# Altium schematic symbol library Rising Clamp System WR-TBL_5.08 mm.SchLib: 81 symbols
Pins are listed as number, name and electrical type; pins without a type are passive.

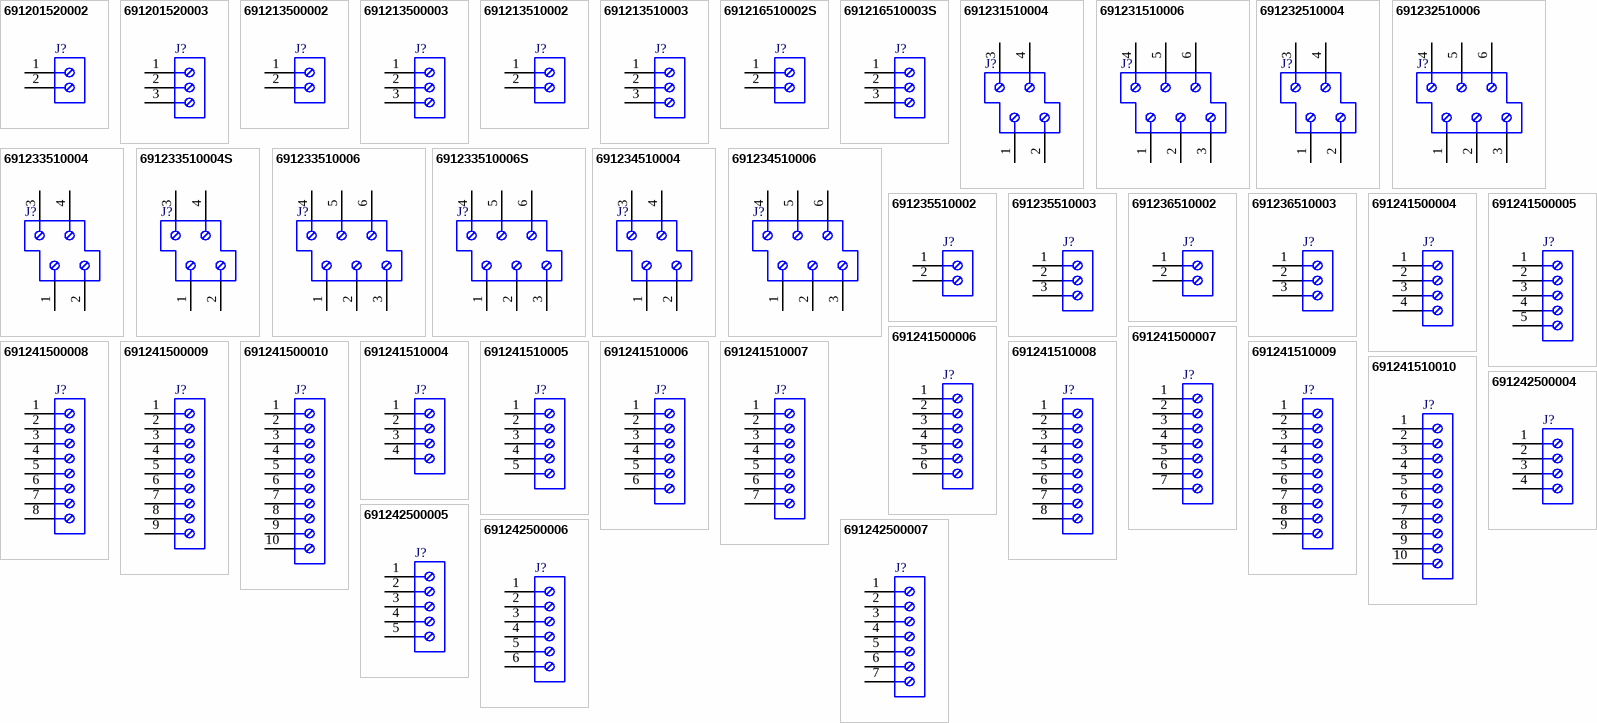
[diagram p0: symbols 691201520002 to 691242500007]

## 691201520002
designator J?
Serie 2015 - 5.08 mm 45deg Entry Modular with Rising Cage Clamp WR-TBL, 2 pin; Part Number: 691201520002; Pin Number: 2; Pitch: 5.08 mm; ComponentLink1Description: Manufacturer; ComponentLink1URL: http://www.we-online.de; ComponentLink2Description: Datasheet; ComponentLink2URL: http://katalog.we-online.de/em/datasheet/6912015200xx.pdf; Published Date: June 2018; Publisher: Wurth Elektronik; Operating Temperature: -30 to 120 degC; Mounting Technology: THT; Packaging: Box
footprint 691201520002
pins: 1, 2

## 691201520003
designator J?
Serie 2015 - 5.08 mm 45deg Entry Modular with Rising Cage Clamp WR-TBL, 3 pin; Part Number: 691201520003; Pin Number: 3; Pitch: 5.08 mm; ComponentLink1Description: Manufacturer; ComponentLink1URL: http://www.we-online.de; ComponentLink2Description: Datasheet; ComponentLink2URL: http://katalog.we-online.de/em/datasheet/6912015200xx.pdf; Published Date: June 2018; Publisher: Wurth Elektronik; Operating Temperature: -30 to 120 degC; Mounting Technology: THT; Packaging: Box
footprint 691201520003
pins: 1, 2, 3

## 691213500002
designator J?
Serie 2135 - 5.08 mm Vertical Entry Modular with Rising Cage Clamp WR-TBL, 2 pin; Part Number: 691213500002; Pin Number: 2; Pitch: 5.08 mm; ComponentLink1Description: Manufacturer; ComponentLink1URL: http://www.we-online.de; ComponentLink2Description: Datasheet; ComponentLink2URL: http://katalog.we-online.de/em/datasheet/6912135000xx.pdf; Published Date: June 2018; Publisher: Wurth Elektronik; Operating Temperature: -30 to 120 degC; Mounting Technology: THT; Packaging: Box
footprint 691213500002
pins: 1, 2

## 691213500003
designator J?
Serie 2135 - 5.08 mm Vertical Entry Modular with Rising Cage Clamp WR-TBL, 3 pin; Part Number: 691213500003; Pin Number: 3; Pitch: 5.08 mm; ComponentLink1Description: Manufacturer; ComponentLink1URL: http://www.we-online.de; ComponentLink2Description: Datasheet; ComponentLink2URL: http://katalog.we-online.de/em/datasheet/6912135000xx.pdf; Published Date: June 2018; Publisher: Wurth Elektronik; Operating Temperature: -30 to 120 degC; Mounting Technology: THT; Packaging: Box
footprint 691213500003
pins: 1, 2, 3

## 691213510002
designator J?
Serie 2135 - 5.08 mm Horizontal Entry Modular with Rising Cage Clamp WR-TBL, 2 pin; Part Number: 691213510002; Pin Number: 2; Pitch: 5.08 mm; ComponentLink1Description: Manufacturer; ComponentLink1URL: http://www.we-online.de; ComponentLink2Description: Datasheet; ComponentLink2URL: http://katalog.we-online.de/em/datasheet/6912135100xx.pdf; Published Date: June 2018; Publisher: Wurth Elektronik; Operating Temperature: -30 to 120 degC; Mounting Technology: THT; Packaging: Box
footprint 691213510002
pins: 1, 2

## 691213510003
designator J?
Serie 2135 - 5.08 mm Horizontal Entry Modular with Rising Cage Clamp WR-TBL, 3 pin; Part Number: 691213510003; Pin Number: 3; Pitch: 5.08 mm; ComponentLink1Description: Manufacturer; ComponentLink1URL: http://www.we-online.de; ComponentLink2Description: Datasheet; ComponentLink2URL: http://katalog.we-online.de/em/datasheet/6912135100xx.pdf; Published Date: June 2018; Publisher: Wurth Elektronik; Operating Temperature: -30 to 120 degC; Mounting Technology: THT; Packaging: Box
footprint 691213510003
pins: 1, 2, 3

## 691216510002S
designator J?
Serie 2165 S - 5.08 mm Horizontal Entry Modular with Rising Cage Clamp WR-TBL, 2 pin; Part Number: 691216510002S; Pin Number: 2; Pitch: 5.08 mm; ComponentLink1Description: Manufacturer; ComponentLink1URL: http://www.we-online.de; ComponentLink2Description: Datasheet; ComponentLink2URL: http://katalog.we-online.de/em/datasheet/6912165100XXS.pdf; Published Date: June 2018; Publisher: Wurth Elektronik; Operating Temperature: -30 to 120 degC; Mounting Technology: THT; Packaging: Box
footprint 691216510002S
pins: 1, 2

## 691216510003S
designator J?
Serie 2165 S - 5.08 mm Horizontal Entry Modular with Rising Cage Clamp WR-TBL, 3 pin; Part Number: 691216510003S; Pin Number: 3; Pitch: 5.08 mm; ComponentLink1Description: Manufacturer; ComponentLink1URL: http://www.we-online.de; ComponentLink2Description: Datasheet; ComponentLink2URL: http://katalog.we-online.de/em/datasheet/6912165100XXS.pdf; Published Date: June 2018; Publisher: Wurth Elektronik; Operating Temperature: -30 to 120 degC; Mounting Technology: THT; Packaging: Box
footprint 691216510003S
pins: 1, 2, 3

## 691231510004
designator J?
Serie 2315 - 5.08 mm Double Level, H=19.01mm, Horizontal Entry Modular with Rising Cage WR-TBL, 4 pin; Part Number: 691231510004; Pin Number: 4; Pitch: 5.08 mm; ComponentLink1Description: Manufacturer; ComponentLink1URL: http://www.we-online.de; ComponentLink2Description: Datasheet; ComponentLink2URL: http://katalog.we-online.de/em/datasheet/6912315100xx.pdf; Published Date: June 2018; Publisher: Wurth Elektronik; Operating Temperature: -40 to 105 degC; Mounting Technology: THT; Packaging: Box
footprint 691231510004
pins: 1, 2, 3, 4

## 691231510006
designator J?
Serie 2315 - 5.08 mm Double Level, H=19.01mm, Horizontal Entry Modular with Rising Cage WR-TBL, 6 pin; Part Number: 691231510006; Pin Number: 6; Pitch: 5.08 mm; ComponentLink1Description: Manufacturer; ComponentLink1URL: http://www.we-online.de; ComponentLink2Description: Datasheet; ComponentLink2URL: http://katalog.we-online.de/em/datasheet/6912315100xx.pdf; Published Date: June 2018; Publisher: Wurth Elektronik; Operating Temperature: -40 to 105 degC; Mounting Technology: THT; Packaging: Box
footprint 691231510006
pins: 1, 2, 3, 4, 5, 6

## 691232510004
designator J?
Serie 2325 - 5.08 mm Double Level, H=25.03mm Horizontal Entry Modular with Rising Cage WR-TBL, 4 pin; Part Number: 691232510004; Pin Number: 4; Pitch: 5.08 mm; ComponentLink1Description: Manufacturer; ComponentLink1URL: http://www.we-online.de; ComponentLink2Description: Datasheet; ComponentLink2URL: http://katalog.we-online.de/em/datasheet/6912325100xx.pdf; Published Date: June 2018; Publisher: Wurth Elektronik; Operating Temperature: -40 to 105 degC; Mounting Technology: THT; Packaging: Box
footprint 691232510004
pins: 1, 2, 3, 4

## 691232510006
designator J?
Serie 2325 - 5.08 mm Double Level, H=25.03mm Horizontal Entry Modular with Rising Cage WR-TBL, 6 pin; Part Number: 691232510006; Pin Number: 6; Pitch: 5.08 mm; ComponentLink1Description: Manufacturer; ComponentLink1URL: http://www.we-online.de; ComponentLink2Description: Datasheet; ComponentLink2URL: http://katalog.we-online.de/em/datasheet/6912325100xx.pdf; Published Date: June 2018; Publisher: Wurth Elektronik; Operating Temperature: -40 to 105 degC; Mounting Technology: THT; Packaging: Box
footprint 691232510006
pins: 1, 2, 3, 4, 5, 6

## 691233510004
designator J?
Serie 2335 - 5.08 mm Double Level, H=31.05mm Horizontal Entry Modular with Rising Cage WR-TBL, 4 pin; Part Number: 691233510004; Pin Number: 4; Pitch: 5.08 mm; ComponentLink1Description: Manufacturer; ComponentLink1URL: http://www.we-online.de; ComponentLink2Description: Datasheet; ComponentLink2URL: http://katalog.we-online.de/em/datasheet/6912335100xx.pdf; Published Date: June 2018; Publisher: Wurth Elektronik; Operating Temperature: -40 to 105 degC; Mounting Technology: THT; Packaging: Box
footprint 691233510004
pins: 1, 2, 3, 4

## 691233510004S
designator J?
Serie 2335 S - 5.08 mm Horizontal Entry with Rising Cage Clamp WR-TBL, 4 pin; Part Number: 691233510004S; Pin Number: 4; Pitch: 5.08 mm; ComponentLink1Description: Manufacturer; ComponentLink1URL: http://www.we-online.de; ComponentLink2Description: Datasheet; ComponentLink2URL: http://katalog.we-online.de/em/datasheet/691233510004S.pdf; Published Date: June 2018; Publisher: Wurth Elektronik; Operating Temperature: -30 to 120 degC; Mounting Technology: THT; Packaging: Box
footprint 691233510004S
pins: 1, 2, 3, 4

## 691233510006
designator J?
Serie 2335 - 5.08 mm Double Level, H=31.05mm Horizontal Entry Modular with Rising Cage WR-TBL, 6 pin; Part Number: 691233510006; Pin Number: 6; Pitch: 5.08 mm; ComponentLink1Description: Manufacturer; ComponentLink1URL: http://www.we-online.de; ComponentLink2Description: Datasheet; ComponentLink2URL: http://katalog.we-online.de/em/datasheet/6912335100xx.pdf; Published Date: June 2018; Publisher: Wurth Elektronik; Operating Temperature: -40 to 105 degC; Mounting Technology: THT; Packaging: Box
footprint 691233510006
pins: 1, 2, 3, 4, 5, 6

## 691233510006S
designator J?
Serie 2335 S - 5.08 mm Horizontal Entry with Rising Cage Clamp WR-TBL, 6 pin; Part Number: 691233510006S; Pin Number: 6; Pitch: 5.08 mm; ComponentLink1Description: Manufacturer; ComponentLink1URL: http://www.we-online.de; ComponentLink2Description: Datasheet; ComponentLink2URL: http://katalog.we-online.de/em/datasheet/691233510006S.pdf; Published Date: June 2018; Publisher: Wurth Elektronik; Operating Temperature: -30 to 120 degC; Mounting Technology: THT; Packaging: Box
footprint 691233510006S
pins: 1, 2, 3, 4, 5, 6

## 691234510004
designator J?
Serie 2345 - 5.08 mm Horizontal Entry with Rising Cage Clamp WR-TBL, 4 pin; Part Number: 691234510004; Pin Number: 4; Pitch: 5.08 mm; ComponentLink1Description: Manufacturer; ComponentLink1URL: http://www.we-online.de; ComponentLink2Description: Datasheet; ComponentLink2URL: http://katalog.we-online.de/em/datasheet/691234510004.pdf; Published Date: June 2018; Publisher: Wurth Elektronik; Operating Temperature: -30 to 120 degC; Mounting Technology: THT; Packaging: Box
footprint 691234510004
pins: 1, 2, 3, 4

## 691234510006
designator J?
Serie 2345 - 5.08 mm Horizontal Entry with Rising Cage Clamp WR-TBL, 6 pin; Part Number: 691234510006; Pin Number: 6; Pitch: 5.08 mm; ComponentLink1Description: Manufacturer; ComponentLink1URL: http://www.we-online.de; ComponentLink2Description: Datasheet; ComponentLink2URL: http://katalog.we-online.de/em/datasheet/691234510006.pdf; Published Date: June 2018; Publisher: Wurth Elektronik; Operating Temperature: -30 to 120 degC; Mounting Technology: THT; Packaging: Box
footprint 691234510006
pins: 1, 2, 3, 4, 5, 6

## 691235510002
designator J?
Serie 2355 - 5.08 mm Horizontal Entry with Rising Cage Clamp WR-TBL, 2 pin; Part Number: 691235510002; Pin Number: 2; Pitch: 5.08 mm; ComponentLink1Description: Manufacturer; ComponentLink1URL: http://www.we-online.de; ComponentLink2Description: Datasheet; ComponentLink2URL: http://katalog.we-online.de/em/datasheet/691235510002.pdf; Published Date: June 2018; Publisher: Wurth Elektronik; Operating Temperature: -30 to 120 degC; Mounting Technology: THT; Packaging: Box
footprint 691235510002
pins: 1, 2

## 691235510003
designator J?
Serie 2355 - 5.08 mm Horizontal Entry with Rising Cage Clamp WR-TBL, 3 pin; Part Number: 691235510003; Pin Number: 3; Pitch: 5.08 mm; ComponentLink1Description: Manufacturer; ComponentLink1URL: http://www.we-online.de; ComponentLink2Description: Datasheet; ComponentLink2URL: http://katalog.we-online.de/em/datasheet/691235510003.pdf; Published Date: June 2018; Publisher: Wurth Elektronik; Operating Temperature: -30 to 120 degC; Mounting Technology: THT; Packaging: Box
footprint 691235510003
pins: 1, 2, 3

## 691236510002
designator J?
Serie 2365 - 5.08 mm Horizontal Cable Entry Modular with Rising Cage Clamp WR-TBL, 2 pin; Part Number: 691236510002; Pin Number: 2; Pitch: 5.08 mm; ComponentLink1Description: Manufacturer; ComponentLink1URL: http://www.we-online.de; ComponentLink2Description: Datasheet; ComponentLink2URL: http://katalog.we-online.de/em/datasheet/691236510002.pdf; Published Date: June 2018; Publisher: Wurth Elektronik; Operating Temperature: -30 to 120 degC; Mounting Technology: THT; Packaging: Box
footprint 691236510002
pins: 1, 2

## 691236510003
designator J?
Serie 2365 - 5.08 mm Horizontal Cable Entry Modular with Rising Cage Clamp WR-TBL, 3 pin; Part Number: 691236510003; Pin Number: 3; Pitch: 5.08 mm; ComponentLink1Description: Manufacturer; ComponentLink1URL: http://www.we-online.de; ComponentLink2Description: Datasheet; ComponentLink2URL: http://katalog.we-online.de/em/datasheet/691236510003.pdf; Published Date: June 2018; Publisher: Wurth Elektronik; Operating Temperature: -30 to 120 degC; Mounting Technology: THT; Packaging: Box
footprint 691236510003
pins: 1, 2, 3

## 691241500004
designator J?
Serie 2415 - 5.08 mm Vertical Entry Modular with Rising Cage Clamp WR-TBL, 4 pin; Part Number: 691241500004; Pin Number: 4; Pitch: 5.08 mm; ComponentLink1Description: Manufacturer; ComponentLink1URL: http://www.we-online.de; ComponentLink2Description: Datasheet; ComponentLink2URL: http://katalog.we-online.de/em/datasheet/6912415000xx.pdf; Published Date: June 2018; Publisher: Wurth Elektronik; Operating Temperature: -30 to 120 degC; Mounting Technology: THT; Packaging: Box
footprint 691241500004
pins: 1, 2, 3, 4

## 691241500005
designator J?
Serie 2415 - 5.08 mm Vertical Entry Modular with Rising Cage Clamp WR-TBL, 5 pin; Part Number: 691241500005; Pin Number: 5; Pitch: 5.08 mm; ComponentLink1Description: Manufacturer; ComponentLink1URL: http://www.we-online.de; ComponentLink2Description: Datasheet; ComponentLink2URL: http://katalog.we-online.de/em/datasheet/6912415000xx.pdf; Published Date: June 2018; Publisher: Wurth Elektronik; Operating Temperature: -30 to 120 degC; Mounting Technology: THT; Packaging: Box
footprint 691241500005
pins: 1, 2, 3, 4, 5

## 691241500006
designator J?
Serie 2415 - 5.08 mm Vertical Entry Modular with Rising Cage Clamp WR-TBL, 6 pin; Part Number: 691241500006; Pin Number: 6; Pitch: 5.08 mm; ComponentLink1Description: Manufacturer; ComponentLink1URL: http://www.we-online.de; ComponentLink2Description: Datasheet; ComponentLink2URL: http://katalog.we-online.de/em/datasheet/6912415000xx.pdf; Published Date: June 2018; Publisher: Wurth Elektronik; Operating Temperature: -30 to 120 degC; Mounting Technology: THT; Packaging: Box
footprint 691241500006
pins: 1, 2, 3, 4, 5, 6

## 691241500007
designator J?
Serie 2415 - 5.08 mm Vertical Entry Modular with Rising Cage Clamp WR-TBL, 7 pin; Part Number: 691241500007; Pin Number: 7; Pitch: 5.08 mm; ComponentLink1Description: Manufacturer; ComponentLink1URL: http://www.we-online.de; ComponentLink2Description: Datasheet; ComponentLink2URL: http://katalog.we-online.de/em/datasheet/6912415000xx.pdf; Published Date: June 2018; Publisher: Wurth Elektronik; Operating Temperature: -30 to 120 degC; Mounting Technology: THT; Packaging: Box
footprint 691241500007
pins: 1, 2, 3, 4, 5, 6, 7

## 691241500008
designator J?
Serie 2415 - 5.08 mm Vertical Entry Modular with Rising Cage Clamp WR-TBL, 8 pin; Part Number: 691241500008; Pin Number: 8; Pitch: 5.08 mm; ComponentLink1Description: Manufacturer; ComponentLink1URL: http://www.we-online.de; ComponentLink2Description: Datasheet; ComponentLink2URL: http://katalog.we-online.de/em/datasheet/6912415000xx.pdf; Published Date: June 2018; Publisher: Wurth Elektronik; Operating Temperature: -30 to 120 degC; Mounting Technology: THT; Packaging: Box
footprint 691241500008
pins: 1, 2, 3, 4, 5, 6, 7, 8

## 691241500009
designator J?
Serie 2415 - 5.08 mm Vertical Entry Modular with Rising Cage Clamp WR-TBL, 9 pin; Part Number: 691241500009; Pin Number: 9; Pitch: 5.08 mm; ComponentLink1Description: Manufacturer; ComponentLink1URL: http://www.we-online.de; ComponentLink2Description: Datasheet; ComponentLink2URL: http://katalog.we-online.de/em/datasheet/6912415000xx.pdf; Published Date: June 2018; Publisher: Wurth Elektronik; Operating Temperature: -30 to 120 degC; Mounting Technology: THT; Packaging: Box
footprint 691241500009
pins: 1, 2, 3, 4, 5, 6, 7, 8, 9

## 691241500010
designator J?
Serie 2415 - 5.08 mm Vertical Entry Modular with Rising Cage Clamp WR-TBL, 10 pin; Part Number: 691241500010; Pin Number: 10; Pitch: 5.08 mm; ComponentLink1Description: Manufacturer; ComponentLink1URL: http://www.we-online.de; ComponentLink2Description: Datasheet; ComponentLink2URL: http://katalog.we-online.de/em/datasheet/6912415000xx.pdf; Published Date: June 2018; Publisher: Wurth Elektronik; Operating Temperature: -30 to 120 degC; Mounting Technology: THT; Packaging: Box
footprint 691241500010
pins: 1, 2, 3, 4, 5, 6, 7, 8, 9, 10

## 691241510004
designator J?
Serie 2415 - 5.08 mm Horizontal Entry Modular with Rising Cage Clamp WR-TBL, 4 pin; Part Number: 691241510004; Pin Number: 4; Pitch: 5.08 mm; ComponentLink1Description: Manufacturer; ComponentLink1URL: http://www.we-online.de; ComponentLink2Description: Datasheet; ComponentLink2URL: http://katalog.we-online.de/em/datasheet/6912415100xx.pdf; Published Date: June 2018; Publisher: Wurth Elektronik; Operating Temperature: -30 to 120 degC; Mounting Technology: THT; Packaging: Box
footprint 691241510004
pins: 1, 2, 3, 4

## 691241510005
designator J?
Serie 2415 - 5.08 mm Horizontal Entry Modular with Rising Cage Clamp WR-TBL, 5 pin; Part Number: 691241510005; Pin Number: 5; Pitch: 5.08 mm; ComponentLink1Description: Manufacturer; ComponentLink1URL: http://www.we-online.de; ComponentLink2Description: Datasheet; ComponentLink2URL: http://katalog.we-online.de/em/datasheet/6912415100xx.pdf; Published Date: June 2018; Publisher: Wurth Elektronik; Operating Temperature: -30 to 120 degC; Mounting Technology: THT; Packaging: Box
footprint 691241510005
pins: 1, 2, 3, 4, 5

## 691241510006
designator J?
Serie 2415 - 5.08 mm Horizontal Entry Modular with Rising Cage Clamp WR-TBL, 6 pin; Part Number: 691241510006; Pin Number: 6; Pitch: 5.08 mm; ComponentLink1Description: Manufacturer; ComponentLink1URL: http://www.we-online.de; ComponentLink2Description: Datasheet; ComponentLink2URL: http://katalog.we-online.de/em/datasheet/6912415100xx.pdf; Published Date: June 2018; Publisher: Wurth Elektronik; Operating Temperature: -30 to 120 degC; Mounting Technology: THT; Packaging: Box
footprint 691241510006
pins: 1, 2, 3, 4, 5, 6

## 691241510007
designator J?
Serie 2415 - 5.08 mm Horizontal Entry Modular with Rising Cage Clamp WR-TBL, 7 pin; Part Number: 691241510007; Pin Number: 7; Pitch: 5.08 mm; ComponentLink1Description: Manufacturer; ComponentLink1URL: http://www.we-online.de; ComponentLink2Description: Datasheet; ComponentLink2URL: http://katalog.we-online.de/em/datasheet/6912415100xx.pdf; Published Date: June 2018; Publisher: Wurth Elektronik; Operating Temperature: -30 to 120 degC; Mounting Technology: THT; Packaging: Box
footprint 691241510007
pins: 1, 2, 3, 4, 5, 6, 7

## 691241510008
designator J?
Serie 2415 - 5.08 mm Horizontal Entry Modular with Rising Cage Clamp WR-TBL, 8 pin; Part Number: 691241510008; Pin Number: 8; Pitch: 5.08 mm; ComponentLink1Description: Manufacturer; ComponentLink1URL: http://www.we-online.de; ComponentLink2Description: Datasheet; ComponentLink2URL: http://katalog.we-online.de/em/datasheet/6912415100xx.pdf; Published Date: June 2018; Publisher: Wurth Elektronik; Operating Temperature: -30 to 120 degC; Mounting Technology: THT; Packaging: Box
footprint 691241510008
pins: 1, 2, 3, 4, 5, 6, 7, 8

## 691241510009
designator J?
Serie 2415 - 5.08 mm Horizontal Entry Modular with Rising Cage Clamp WR-TBL, 9 pin; Part Number: 691241510009; Pin Number: 9; Pitch: 5.08 mm; ComponentLink1Description: Manufacturer; ComponentLink1URL: http://www.we-online.de; ComponentLink2Description: Datasheet; ComponentLink2URL: http://katalog.we-online.de/em/datasheet/6912415100xx.pdf; Published Date: June 2018; Publisher: Wurth Elektronik; Operating Temperature: -30 to 120 degC; Mounting Technology: THT; Packaging: Box
footprint 691241510009
pins: 1, 2, 3, 4, 5, 6, 7, 8, 9

## 691241510010
designator J?
Serie 2415 - 5.08 mm Horizontal Entry Modular with Rising Cage Clamp WR-TBL, 10 pin; Part Number: 691241510010; Pin Number: 10; Pitch: 5.08 mm; ComponentLink1Description: Manufacturer; ComponentLink1URL: http://www.we-online.de; ComponentLink2Description: Datasheet; ComponentLink2URL: http://katalog.we-online.de/em/datasheet/6912415100xx.pdf; Published Date: June 2018; Publisher: Wurth Elektronik; Operating Temperature: -30 to 120 degC; Mounting Technology: THT; Packaging: Box
footprint 691241510010
pins: 1, 2, 3, 4, 5, 6, 7, 8, 9, 10

## 691242500004
designator J?
Serie 2425 - 5.08 mm Vertical Entry with Rising Cage Clamp WR-TBL, 4 pin; Part Number: 691242500004; Pin Number: 4; Pitch: 5.08 mm; ComponentLink1Description: Manufacturer; ComponentLink1URL: http://www.we-online.de; ComponentLink2Description: Datasheet; ComponentLink2URL: http://katalog.we-online.de/em/datasheet/6912425000xx.pdf; Published Date: June 2018; Publisher: Wurth Elektronik; Operating Temperature: -30 to 120 degC; Mounting Technology: THT; Packaging: Box
footprint 691242500004
pins: 1, 2, 3, 4

## 691242500005
designator J?
Serie 2425 - 5.08 mm Vertical Entry with Rising Cage Clamp WR-TBL, 5 pin; Part Number: 691242500005; Pin Number: 5; Pitch: 5.08 mm; ComponentLink1Description: Manufacturer; ComponentLink1URL: http://www.we-online.de; ComponentLink2Description: Datasheet; ComponentLink2URL: http://katalog.we-online.de/em/datasheet/6912425000xx.pdf; Published Date: June 2018; Publisher: Wurth Elektronik; Operating Temperature: -30 to 120 degC; Mounting Technology: THT; Packaging: Box
footprint 691242500005
pins: 1, 2, 3, 4, 5

## 691242500006
designator J?
Serie 2425 - 5.08 mm Vertical Entry with Rising Cage Clamp WR-TBL, 6 pin; Part Number: 691242500006; Pin Number: 6; Pitch: 5.08 mm; ComponentLink1Description: Manufacturer; ComponentLink1URL: http://www.we-online.de; ComponentLink2Description: Datasheet; ComponentLink2URL: http://katalog.we-online.de/em/datasheet/6912425000xx.pdf; Published Date: June 2018; Publisher: Wurth Elektronik; Operating Temperature: -30 to 120 degC; Mounting Technology: THT; Packaging: Box
footprint 691242500006
pins: 1, 2, 3, 4, 5, 6

## 691242500007
designator J?
Serie 2425 - 5.08 mm Vertical Entry with Rising Cage Clamp WR-TBL, 7 pin; Part Number: 691242500007; Pin Number: 7; Pitch: 5.08 mm; ComponentLink1Description: Manufacturer; ComponentLink1URL: http://www.we-online.de; ComponentLink2Description: Datasheet; ComponentLink2URL: http://katalog.we-online.de/em/datasheet/6912425000xx.pdf; Published Date: June 2018; Publisher: Wurth Elektronik; Operating Temperature: -30 to 120 degC; Mounting Technology: THT; Packaging: Box
footprint 691242500007
pins: 1, 2, 3, 4, 5, 6, 7

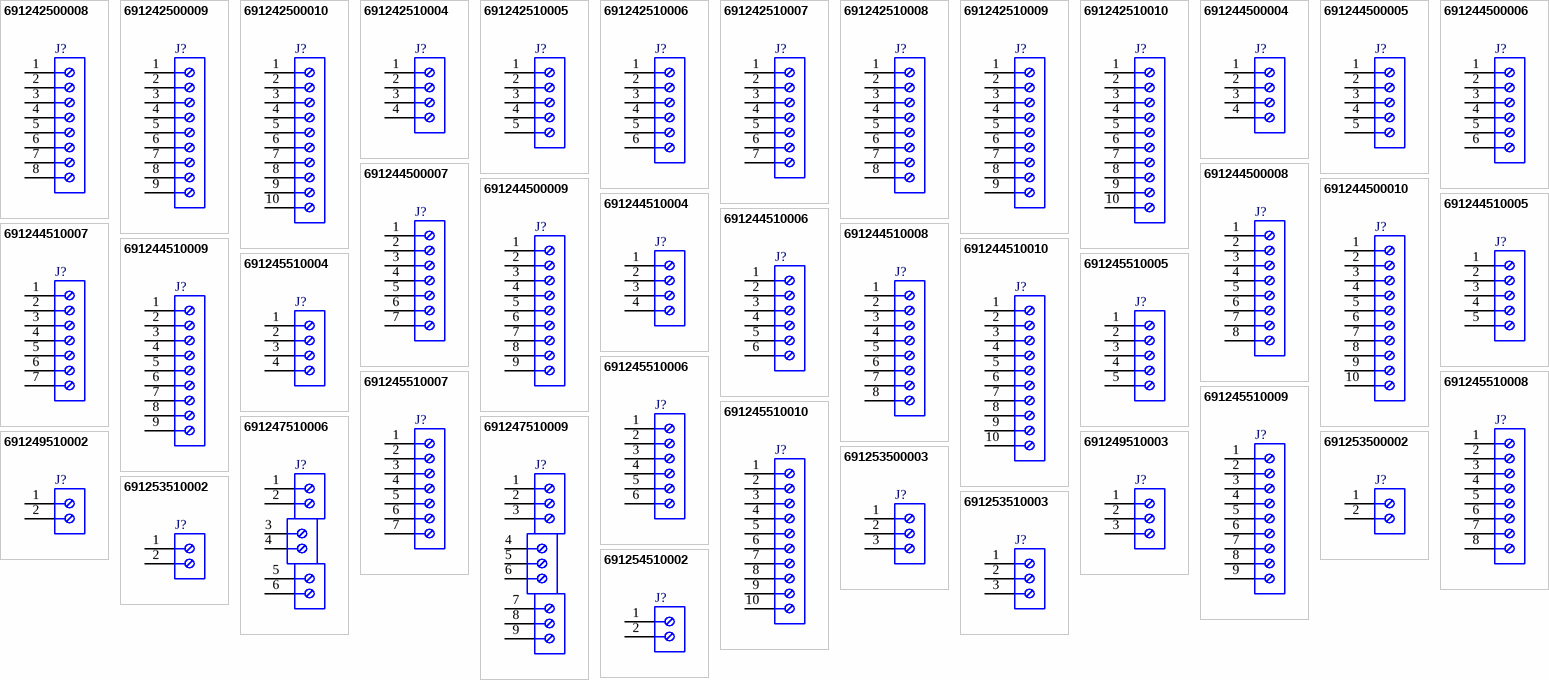
[diagram p1: symbols 691242500008 to 691254510002]

## 691242500008
designator J?
Serie 2425 - 5.08 mm Vertical Entry with Rising Cage Clamp WR-TBL, 8 pin; Part Number: 691242500008; Pin Number: 8; Pitch: 5.08 mm; ComponentLink1Description: Manufacturer; ComponentLink1URL: http://www.we-online.de; ComponentLink2Description: Datasheet; ComponentLink2URL: http://katalog.we-online.de/em/datasheet/6912425000xx.pdf; Published Date: June 2018; Publisher: Wurth Elektronik; Operating Temperature: -30 to 120 degC; Mounting Technology: THT; Packaging: Box
footprint 691242500008
pins: 1, 2, 3, 4, 5, 6, 7, 8

## 691242500009
designator J?
Serie 2425 - 5.08 mm Vertical Entry with Rising Cage Clamp WR-TBL, 9 pin; Part Number: 691242500009; Pin Number: 9; Pitch: 5.08 mm; ComponentLink1Description: Manufacturer; ComponentLink1URL: http://www.we-online.de; ComponentLink2Description: Datasheet; ComponentLink2URL: http://katalog.we-online.de/em/datasheet/6912425000xx.pdf; Published Date: June 2018; Publisher: Wurth Elektronik; Operating Temperature: -30 to 120 degC; Mounting Technology: THT; Packaging: Box
footprint 691242500009
pins: 1, 2, 3, 4, 5, 6, 7, 8, 9

## 691242500010
designator J?
Serie 2425 - 5.08 mm Vertical Entry with Rising Cage Clamp WR-TBL, 10 pin; Part Number: 691242500010; Pin Number: 10; Pitch: 5.08 mm; ComponentLink1Description: Manufacturer; ComponentLink1URL: http://www.we-online.de; ComponentLink2Description: Datasheet; ComponentLink2URL: http://katalog.we-online.de/em/datasheet/6912425000xx.pdf; Published Date: June 2018; Publisher: Wurth Elektronik; Operating Temperature: -30 to 120 degC; Mounting Technology: THT; Packaging: Box
footprint 691242500010
pins: 1, 2, 3, 4, 5, 6, 7, 8, 9, 10

## 691242510004
designator J?
Serie 2425 - 5.08 mm Horizontal Entry Modular with Rising Cage Clamp WR-TBL, 4 pin; Part Number: 691242510004; Pin Number: 4; Pitch: 5.08 mm; ComponentLink1Description: Manufacturer; ComponentLink1URL: http://www.we-online.de; ComponentLink2Description: Datasheet; ComponentLink2URL: http://katalog.we-online.de/em/datasheet/6912425100xx.pdf; Published Date: June 2018; Publisher: Wurth Elektronik; Operating Temperature: -30 to 120 degC; Mounting Technology: THT; Packaging: Box
footprint 691242510004
pins: 1, 2, 3, 4

## 691242510005
designator J?
Serie 2425 - 5.08 mm Horizontal Entry Modular with Rising Cage Clamp WR-TBL, 5 pin; Part Number: 691242510005; Pin Number: 5; Pitch: 5.08 mm; ComponentLink1Description: Manufacturer; ComponentLink1URL: http://www.we-online.de; ComponentLink2Description: Datasheet; ComponentLink2URL: http://katalog.we-online.de/em/datasheet/6912425100xx.pdf; Published Date: June 2018; Publisher: Wurth Elektronik; Operating Temperature: -30 to 120 degC; Mounting Technology: THT; Packaging: Box
footprint 691242510005
pins: 1, 2, 3, 4, 5

## 691242510006
designator J?
Serie 2425 - 5.08 mm Horizontal Entry Modular with Rising Cage Clamp WR-TBL, 6 pin; Part Number: 691242510006; Pin Number: 6; Pitch: 5.08 mm; ComponentLink1Description: Manufacturer; ComponentLink1URL: http://www.we-online.de; ComponentLink2Description: Datasheet; ComponentLink2URL: http://katalog.we-online.de/em/datasheet/6912425100xx.pdf; Published Date: June 2018; Publisher: Wurth Elektronik; Operating Temperature: -30 to 120 degC; Mounting Technology: THT; Packaging: Box
footprint 691242510006
pins: 1, 2, 3, 4, 5, 6

## 691242510007
designator J?
Serie 2425 - 5.08 mm Horizontal Entry Modular with Rising Cage Clamp WR-TBL, 7 pin; Part Number: 691242510007; Pin Number: 7; Pitch: 5.08 mm; ComponentLink1Description: Manufacturer; ComponentLink1URL: http://www.we-online.de; ComponentLink2Description: Datasheet; ComponentLink2URL: http://katalog.we-online.de/em/datasheet/6912425100xx.pdf; Published Date: June 2018; Publisher: Wurth Elektronik; Operating Temperature: -30 to 120 degC; Mounting Technology: THT; Packaging: Box
footprint 691242510007
pins: 1, 2, 3, 4, 5, 6, 7

## 691242510008
designator J?
Serie 2425 - 5.08 mm Horizontal Entry Modular with Rising Cage Clamp WR-TBL, 8 pin; Part Number: 691242510008; Pin Number: 8; Pitch: 5.08 mm; ComponentLink1Description: Manufacturer; ComponentLink1URL: http://www.we-online.de; ComponentLink2Description: Datasheet; ComponentLink2URL: http://katalog.we-online.de/em/datasheet/6912425100xx.pdf; Published Date: June 2018; Publisher: Wurth Elektronik; Operating Temperature: -30 to 120 degC; Mounting Technology: THT; Packaging: Box
footprint 691242510008
pins: 1, 2, 3, 4, 5, 6, 7, 8

## 691242510009
designator J?
Serie 2425 - 5.08 mm Horizontal Entry Modular with Rising Cage Clamp WR-TBL, 9 pin; Part Number: 691242510009; Pin Number: 9; Pitch: 5.08 mm; ComponentLink1Description: Manufacturer; ComponentLink1URL: http://www.we-online.de; ComponentLink2Description: Datasheet; ComponentLink2URL: http://katalog.we-online.de/em/datasheet/6912425100xx.pdf; Published Date: June 2018; Publisher: Wurth Elektronik; Operating Temperature: -30 to 120 degC; Mounting Technology: THT; Packaging: Box
footprint 691242510009
pins: 1, 2, 3, 4, 5, 6, 7, 8, 9

## 691242510010
designator J?
Serie 2425 - 5.08 mm Horizontal Entry Modular with Rising Cage Clamp WR-TBL, 10 pin; Part Number: 691242510010; Pin Number: 10; Pitch: 5.08 mm; ComponentLink1Description: Manufacturer; ComponentLink1URL: http://www.we-online.de; ComponentLink2Description: Datasheet; ComponentLink2URL: http://katalog.we-online.de/em/datasheet/6912425100xx.pdf; Published Date: June 2018; Publisher: Wurth Elektronik; Operating Temperature: -30 to 120 degC; Mounting Technology: THT; Packaging: Box
footprint 691242510010
pins: 1, 2, 3, 4, 5, 6, 7, 8, 9, 10

## 691244500004
designator J?
Serie 2445 - 5.08 mm Vertical Entry Modular with Rising Cage Clamp WR-TBL, 4 pin; Part Number: 691244500004; Pin Number: 4; Pitch: 5.08 mm; ComponentLink1Description: Manufacturer; ComponentLink1URL: http://www.we-online.de; ComponentLink2Description: Datasheet; ComponentLink2URL: http://katalog.we-online.de/em/datasheet/6912445000XX.pdf; Published Date: June 2018; Publisher: Wurth Elektronik; Operating Temperature: -30 to 120 degC; Mounting Technology: THT; Packaging: Box
footprint 691244500004
pins: 1, 2, 3, 4

## 691244500005
designator J?
Serie 2445 - 5.08 mm Vertical Entry Modular with Rising Cage Clamp WR-TBL, 5 pin; Part Number: 691244500005; Pin Number: 5; Pitch: 5.08 mm; ComponentLink1Description: Manufacturer; ComponentLink1URL: http://www.we-online.de; ComponentLink2Description: Datasheet; ComponentLink2URL: http://katalog.we-online.de/em/datasheet/6912445000XX.pdf; Published Date: June 2018; Publisher: Wurth Elektronik; Operating Temperature: -30 to 120 degC; Mounting Technology: THT; Packaging: Box
footprint 691244500005
pins: 1, 2, 3, 4, 5

## 691244500006
designator J?
Serie 2445 - 5.08 mm Vertical Entry Modular with Rising Cage Clamp WR-TBL, 6 pin; Part Number: 691244500006; Pin Number: 6; Pitch: 5.08 mm; ComponentLink1Description: Manufacturer; ComponentLink1URL: http://www.we-online.de; ComponentLink2Description: Datasheet; ComponentLink2URL: http://katalog.we-online.de/em/datasheet/6912445000XX.pdf; Published Date: June 2018; Publisher: Wurth Elektronik; Operating Temperature: -30 to 120 degC; Mounting Technology: THT; Packaging: Box
footprint 691244500006
pins: 1, 2, 3, 4, 5, 6

## 691244500007
designator J?
Serie 2445 - 5.08 mm Vertical Entry Modular with Rising Cage Clamp WR-TBL, 7 pin; Part Number: 691244500007; Pin Number: 7; Pitch: 5.08 mm; ComponentLink1Description: Manufacturer; ComponentLink1URL: http://www.we-online.de; ComponentLink2Description: Datasheet; ComponentLink2URL: http://katalog.we-online.de/em/datasheet/6912445000XX.pdf; Published Date: June 2018; Publisher: Wurth Elektronik; Operating Temperature: -30 to 120 degC; Mounting Technology: THT; Packaging: Box
footprint 691244500007
pins: 1, 2, 3, 4, 5, 6, 7

## 691244500008
designator J?
Serie 2445 - 5.08 mm Vertical Entry Modular with Rising Cage Clamp WR-TBL, 8 pin; Part Number: 691244500008; Pin Number: 8; Pitch: 5.08 mm; ComponentLink1Description: Manufacturer; ComponentLink1URL: http://www.we-online.de; ComponentLink2Description: Datasheet; ComponentLink2URL: http://katalog.we-online.de/em/datasheet/6912445000XX.pdf; Published Date: June 2018; Publisher: Wurth Elektronik; Operating Temperature: -30 to 120 degC; Mounting Technology: THT; Packaging: Box
footprint 691244500008
pins: 1, 2, 3, 4, 5, 6, 7, 8

## 691244500009
designator J?
Serie 2445 - 5.08 mm Vertical Entry Modular with Rising Cage Clamp WR-TBL, 9 pin; Part Number: 691244500009; Pin Number: 9; Pitch: 5.08 mm; ComponentLink1Description: Manufacturer; ComponentLink1URL: http://www.we-online.de; ComponentLink2Description: Datasheet; ComponentLink2URL: http://katalog.we-online.de/em/datasheet/6912445000XX.pdf; Published Date: June 2018; Publisher: Wurth Elektronik; Operating Temperature: -30 to 120 degC; Mounting Technology: THT; Packaging: Box
footprint 691244500009
pins: 1, 2, 3, 4, 5, 6, 7, 8, 9

## 691244500010
designator J?
Serie 2445 - 5.08 mm Vertical Entry Modular with Rising Cage Clamp WR-TBL, 10 pin; Part Number: 691244500010; Pin Number: 10; Pitch: 5.08 mm; ComponentLink1Description: Manufacturer; ComponentLink1URL: http://www.we-online.de; ComponentLink2Description: Datasheet; ComponentLink2URL: http://katalog.we-online.de/em/datasheet/6912445000XX.pdf; Published Date: June 2018; Publisher: Wurth Elektronik; Operating Temperature: -30 to 120 degC; Mounting Technology: THT; Packaging: Box
footprint 691244500010
pins: 1, 2, 3, 4, 5, 6, 7, 8, 9, 10

## 691244510004
designator J?
Serie 2445 - 5.08 mm Horizontal Entry Modular with Rising Cage Clamp WR-TBL, 4 pin; Part Number: 691244510004; Pin Number: 4; Pitch: 5.08 mm; ComponentLink1Description: Manufacturer; ComponentLink1URL: http://www.we-online.de; ComponentLink2Description: Datasheet; ComponentLink2URL: http://katalog.we-online.de/em/datasheet/6912445100xx.pdf; Published Date: June 2018; Publisher: Wurth Elektronik; Operating Temperature: -30 to 120 degC; Mounting Technology: THT; Packaging: Box
footprint 691244510004
pins: 1, 2, 3, 4

## 691244510005
designator J?
Serie 2445 - 5.08 mm Horizontal Entry Modular with Rising Cage Clamp WR-TBL, 5 pin; Part Number: 691244510005; Pin Number: 5; Pitch: 5.08 mm; ComponentLink1Description: Manufacturer; ComponentLink1URL: http://www.we-online.de; ComponentLink2Description: Datasheet; ComponentLink2URL: http://katalog.we-online.de/em/datasheet/6912445100xx.pdf; Published Date: June 2018; Publisher: Wurth Elektronik; Operating Temperature: -30 to 120 degC; Mounting Technology: THT; Packaging: Box
footprint 691244510005
pins: 1, 2, 3, 4, 5

## 691244510006
designator J?
Serie 2445 - 5.08 mm Horizontal Entry Modular with Rising Cage Clamp WR-TBL, 6 pin; Part Number: 691244510006; Pin Number: 6; Pitch: 5.08 mm; ComponentLink1Description: Manufacturer; ComponentLink1URL: http://www.we-online.de; ComponentLink2Description: Datasheet; ComponentLink2URL: http://katalog.we-online.de/em/datasheet/6912445100xx.pdf; Published Date: June 2018; Publisher: Wurth Elektronik; Operating Temperature: -30 to 120 degC; Mounting Technology: THT; Packaging: Box
footprint 691244510006
pins: 1, 2, 3, 4, 5, 6

## 691244510007
designator J?
Serie 2445 - 5.08 mm Horizontal Entry Modular with Rising Cage Clamp WR-TBL, 7 pin; Part Number: 691244510007; Pin Number: 7; Pitch: 5.08 mm; ComponentLink1Description: Manufacturer; ComponentLink1URL: http://www.we-online.de; ComponentLink2Description: Datasheet; ComponentLink2URL: http://katalog.we-online.de/em/datasheet/6912445100xx.pdf; Published Date: June 2018; Publisher: Wurth Elektronik; Operating Temperature: -30 to 120 degC; Mounting Technology: THT; Packaging: Box
footprint 691244510007
pins: 1, 2, 3, 4, 5, 6, 7

## 691244510008
designator J?
Serie 2445 - 5.08 mm Horizontal Entry Modular with Rising Cage Clamp WR-TBL, 8 pin; Part Number: 691244510008; Pin Number: 8; Pitch: 5.08 mm; ComponentLink1Description: Manufacturer; ComponentLink1URL: http://www.we-online.de; ComponentLink2Description: Datasheet; ComponentLink2URL: http://katalog.we-online.de/em/datasheet/6912445100xx.pdf; Published Date: June 2018; Publisher: Wurth Elektronik; Operating Temperature: -30 to 120 degC; Mounting Technology: THT; Packaging: Box
footprint 691244510008
pins: 1, 2, 3, 4, 5, 6, 7, 8

## 691244510009
designator J?
Serie 2445 - 5.08 mm Horizontal Entry Modular with Rising Cage Clamp WR-TBL, 9 pin; Part Number: 691244510009; Pin Number: 9; Pitch: 5.08 mm; ComponentLink1Description: Manufacturer; ComponentLink1URL: http://www.we-online.de; ComponentLink2Description: Datasheet; ComponentLink2URL: http://katalog.we-online.de/em/datasheet/6912445100xx.pdf; Published Date: June 2018; Publisher: Wurth Elektronik; Operating Temperature: -30 to 120 degC; Mounting Technology: THT; Packaging: Box
footprint 691244510009
pins: 1, 2, 3, 4, 5, 6, 7, 8, 9

## 691244510010
designator J?
Serie 2445 - 5.08 mm Horizontal Entry Modular with Rising Cage Clamp WR-TBL, 10 pin; Part Number: 691244510010; Pin Number: 10; Pitch: 5.08 mm; ComponentLink1Description: Manufacturer; ComponentLink1URL: http://www.we-online.de; ComponentLink2Description: Datasheet; ComponentLink2URL: http://katalog.we-online.de/em/datasheet/6912445100xx.pdf; Published Date: June 2018; Publisher: Wurth Elektronik; Operating Temperature: -30 to 120 degC; Mounting Technology: THT; Packaging: Box
footprint 691244510010
pins: 1, 2, 3, 4, 5, 6, 7, 8, 9, 10

## 691245510004
designator J?
Serie 2455 - 5.08 mm Horizontal Cable Entry with Rising Cage WR-TBL, 4 pin; Part Number: 691245510004; Pin Number: 4; Pitch: 5.08 mm; ComponentLink1Description: Manufacturer; ComponentLink1URL: http://www.we-online.de; ComponentLink2Description: Datasheet; ComponentLink2URL: http://katalog.we-online.de/em/datasheet/6912455100xx.pdf; Published Date: June 2018; Publisher: Wurth Elektronik; Operating Temperature: -30 to 120 degC; Mounting Technology: THT; Packaging: Box
footprint 691245510004
pins: 1, 2, 3, 4

## 691245510005
designator J?
Serie 2455 - 5.08 mm Horizontal Cable Entry with Rising Cage WR-TBL, 5 pin; Part Number: 691245510005; Pin Number: 5; Pitch: 5.08 mm; ComponentLink1Description: Manufacturer; ComponentLink1URL: http://www.we-online.de; ComponentLink2Description: Datasheet; ComponentLink2URL: http://katalog.we-online.de/em/datasheet/6912455100xx.pdf; Published Date: June 2018; Publisher: Wurth Elektronik; Operating Temperature: -30 to 120 degC; Mounting Technology: THT; Packaging: Box
footprint 691245510005
pins: 1, 2, 3, 4, 5

## 691245510006
designator J?
Serie 2455 - 5.08 mm Horizontal Cable Entry with Rising Cage WR-TBL, 6 pin; Part Number: 691245510006; Pin Number: 6; Pitch: 5.08 mm; ComponentLink1Description: Manufacturer; ComponentLink1URL: http://www.we-online.de; ComponentLink2Description: Datasheet; ComponentLink2URL: http://katalog.we-online.de/em/datasheet/6912455100xx.pdf; Published Date: June 2018; Publisher: Wurth Elektronik; Operating Temperature: -30 to 120 degC; Mounting Technology: THT; Packaging: Box
footprint 691245510006
pins: 1, 2, 3, 4, 5, 6

## 691245510007
designator J?
Serie 2455 - 5.08 mm Horizontal Cable Entry with Rising Cage WR-TBL, 7 pin; Part Number: 691245510007; Pin Number: 7; Pitch: 5.08 mm; ComponentLink1Description: Manufacturer; ComponentLink1URL: http://www.we-online.de; ComponentLink2Description: Datasheet; ComponentLink2URL: http://katalog.we-online.de/em/datasheet/6912455100xx.pdf; Published Date: June 2018; Publisher: Wurth Elektronik; Operating Temperature: -30 to 120 degC; Mounting Technology: THT; Packaging: Box
footprint 691245510007
pins: 1, 2, 3, 4, 5, 6, 7

## 691245510008
designator J?
Serie 2455 - 5.08 mm Horizontal Cable Entry with Rising Cage WR-TBL, 8 pin; Part Number: 691245510008; Pin Number: 8; Pitch: 5.08 mm; ComponentLink1Description: Manufacturer; ComponentLink1URL: http://www.we-online.de; ComponentLink2Description: Datasheet; ComponentLink2URL: http://katalog.we-online.de/em/datasheet/6912455100xx.pdf; Published Date: June 2018; Publisher: Wurth Elektronik; Operating Temperature: -30 to 120 degC; Mounting Technology: THT; Packaging: Box
footprint 691245510008
pins: 1, 2, 3, 4, 5, 6, 7, 8

## 691245510009
designator J?
Serie 2455 - 5.08 mm Horizontal Cable Entry with Rising Cage WR-TBL, 9 pin; Part Number: 691245510009; Pin Number: 9; Pitch: 5.08 mm; ComponentLink1Description: Manufacturer; ComponentLink1URL: http://www.we-online.de; ComponentLink2Description: Datasheet; ComponentLink2URL: http://katalog.we-online.de/em/datasheet/6912455100xx.pdf; Published Date: June 2018; Publisher: Wurth Elektronik; Operating Temperature: -30 to 120 degC; Mounting Technology: THT; Packaging: Box
footprint 691245510009
pins: 1, 2, 3, 4, 5, 6, 7, 8, 9

## 691245510010
designator J?
Serie 2455 - 5.08 mm Horizontal Cable Entry with Rising Cage WR-TBL, 10 pin; Part Number: 691245510010; Pin Number: 10; Pitch: 5.08 mm; ComponentLink1Description: Manufacturer; ComponentLink1URL: http://www.we-online.de; ComponentLink2Description: Datasheet; ComponentLink2URL: http://katalog.we-online.de/em/datasheet/6912455100xx.pdf; Published Date: June 2018; Publisher: Wurth Elektronik; Operating Temperature: -30 to 120 degC; Mounting Technology: THT; Packaging: Box
footprint 691245510010
pins: 1, 2, 3, 4, 5, 6, 7, 8, 9, 10

## 691247510006
designator J?
Serie 2475 - 5.08 mm Triple Level Horizontal Cable Entry Modular with Rising Cage Clamp WR-TBL, 6 pin; Part Number: 691247510006; Pin Number: 6; Pitch: 5.08 mm; ComponentLink1Description: Manufacturer; ComponentLink1URL: http://www.we-online.de; ComponentLink2Description: Datasheet; ComponentLink2URL: http://katalog.we-online.de/em/datasheet/691247510006.pdf; Published Date: June 2018; Publisher: Wurth Elektronik; Operating Temperature: -30 to 120 degC; Mounting Technology: THT; Packaging: Box
footprint 691247510006
pins: 1, 2, 3, 4, 5, 6

## 691247510009
designator J?
Serie 2475 - 5.08 mm Triple Level Horizontal Cable Entry Modular with Rising Cage Clamp WR-TBL, 9 pin; Part Number: 691247510009; Pin Number: 9; Pitch: 5.08 mm; ComponentLink1Description: Manufacturer; ComponentLink1URL: http://www.we-online.de; ComponentLink2Description: Datasheet; ComponentLink2URL: http://katalog.we-online.de/em/datasheet/691247510009.pdf; Published Date: June 2018; Publisher: Wurth Elektronik; Operating Temperature: -30 to 120 degC; Mounting Technology: THT; Packaging: Box
footprint 691247510009
pins: 1, 2, 3, 4, 5, 6, 7, 8, 9

## 691249510002
designator J?
Serie 2495 - 5.08 mm Horizontal Entry with Rising Cage Clamp WR-TBL, 2 pin; Part Number: 691249510002; Pin Number: 2; Pitch: 5.08 mm; ComponentLink1Description: Manufacturer; ComponentLink1URL: http://www.we-online.de; ComponentLink2Description: Datasheet; ComponentLink2URL: http://katalog.we-online.de/em/datasheet/691249510002.pdf; Published Date: June 2018; Publisher: Wurth Elektronik; Operating Temperature: -30 to 120 degC; Mounting Technology: THT; Packaging: Box
footprint 691249510002
pins: 1, 2

## 691249510003
designator J?
Serie 2495 - 5.08 mm Horizontal Entry with Rising Cage Clamp WR-TBL, 3 pin; Part Number: 691249510003; Pin Number: 3; Pitch: 5.08 mm; ComponentLink1Description: Manufacturer; ComponentLink1URL: http://www.we-online.de; ComponentLink2Description: Datasheet; ComponentLink2URL: http://katalog.we-online.de/em/datasheet/691249510003.pdf; Published Date: June 2018; Publisher: Wurth Elektronik; Operating Temperature: -30 to 120 degC; Mounting Technology: THT; Packaging: Box
footprint 691249510003
pins: 1, 2, 3

## 691253500002
designator J?
Serie 2535 - 5.08 mm Vertical Entry Modular with Rising Cage Clamp WR-TBL, 2 pin; Part Number: 691253500002; Pin Number: 2; Pitch: 5.08 mm; ComponentLink1Description: Manufacturer; ComponentLink1URL: http://www.we-online.de; ComponentLink2Description: Datasheet; ComponentLink2URL: http://katalog.we-online.de/em/datasheet/6912535000XX.pdf; Published Date: June 2018; Publisher: Wurth Elektronik; Operating Temperature: -30 to 120 degC; Mounting Technology: THT; Packaging: Box
footprint 691253500002
pins: 1, 2

## 691253500003
designator J?
Serie 2535 - 5.08 mm Vertical Entry Modular with Rising Cage Clamp WR-TBL, 3 pin; Part Number: 691253500003; Pin Number: 3; Pitch: 5.08 mm; ComponentLink1Description: Manufacturer; ComponentLink1URL: http://www.we-online.de; ComponentLink2Description: Datasheet; ComponentLink2URL: http://katalog.we-online.de/em/datasheet/6912535000XX.pdf; Published Date: June 2018; Publisher: Wurth Elektronik; Operating Temperature: -30 to 120 degC; Mounting Technology: THT; Packaging: Box
footprint 691253500003
pins: 1, 2, 3

## 691253510002
designator J?
Serie 2535 - 5.08 mm Horizontal Entry Modular with Rising Cage Clamp WR-TBL, 2 pin; Part Number: 691253510002; Pin Number: 2; Pitch: 5.08 mm; ComponentLink1Description: Manufacturer; ComponentLink1URL: http://www.we-online.de; ComponentLink2Description: Datasheet; ComponentLink2URL: http://katalog.we-online.de/em/datasheet/6912535100xx.pdf; Published Date: June 2018; Publisher: Wurth Elektronik; Operating Temperature: -30 to 120 degC; Mounting Technology: THT; Packaging: Box
footprint 691253510002
pins: 1, 2

## 691253510003
designator J?
Serie 2535 - 5.08 mm Horizontal Entry Modular with Rising Cage Clamp WR-TBL, 3 pin; Part Number: 691253510003; Pin Number: 3; Pitch: 5.08 mm; ComponentLink1Description: Manufacturer; ComponentLink1URL: http://www.we-online.de; ComponentLink2Description: Datasheet; ComponentLink2URL: http://katalog.we-online.de/em/datasheet/6912535100xx.pdf; Published Date: June 2018; Publisher: Wurth Elektronik; Operating Temperature: -30 to 120 degC; Mounting Technology: THT; Packaging: Box
footprint 691253510003
pins: 1, 2, 3

## 691254510002
designator J?
Serie 2545 - 5.08 mm Horizontal Cable Entry with Rising Cage WR-TBL, 2 pin; Part Number: 691254510002; Pin Number: 2; Pitch: 5.08 mm; ComponentLink1Description: Manufacturer; ComponentLink1URL: http://www.we-online.de; ComponentLink2Description: Datasheet; ComponentLink2URL: http://katalog.we-online.de/em/datasheet/6912545100xx.pdf; Published Date: June 2018; Publisher: Wurth Elektronik; Operating Temperature: -30 to 120 degC; Mounting Technology: THT; Packaging: Box
footprint 691254510002
pins: 1, 2

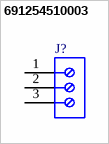
[diagram p2: symbol 691254510003]

## 691254510003
designator J?
Serie 2545 - 5.08 mm Horizontal Cable Entry with Rising Cage WR-TBL, 3 pin; Part Number: 691254510003; Pin Number: 3; Pitch: 5.08 mm; ComponentLink1Description: Manufacturer; ComponentLink1URL: http://www.we-online.de; ComponentLink2Description: Datasheet; ComponentLink2URL: http://katalog.we-online.de/em/datasheet/6912545100xx.pdf; Published Date: June 2018; Publisher: Wurth Elektronik; Operating Temperature: -30 to 120 degC; Mounting Technology: THT; Packaging: Box
footprint 691254510003
pins: 1, 2, 3